# Altium schematic symbol library demolib.SchLib: 1 symbol
Pins are listed as number, name and electrical type; pins without a type are passive.

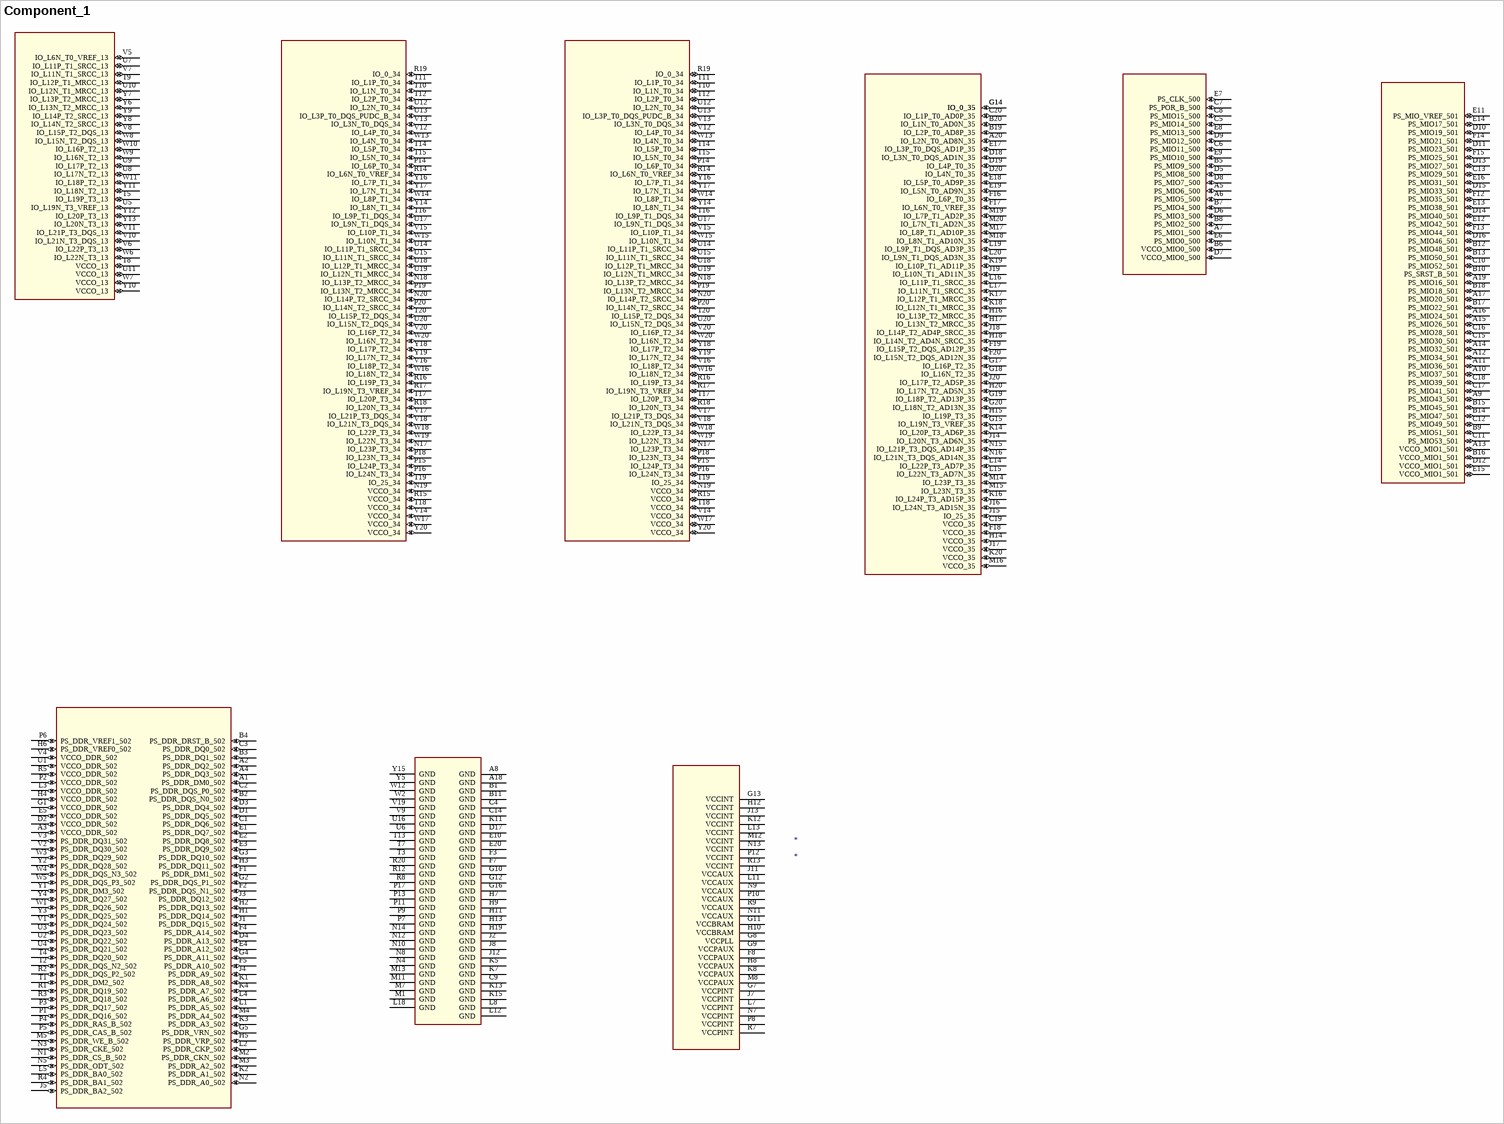
[diagram p0: symbol Component_1]

## Component_1
designator *
pins: A1 PS_DDR_DM0_502 (io) "DDR", A2 PS_DDR_DQ2_502 (io) "DDR", A3 VCCO_DDR_502 (io) "NA", A4 PS_DDR_DQ3_502 (io) "DDR", A5 PS_MIO6_500 (io) "MIO", A6 PS_MIO5_500 (io) "MIO", A7 PS_MIO1_500 (io) "MIO", A8 GND (power), A9 PS_MIO43_501 (io) "MIO", A10 PS_MIO37_501 (io) "MIO", A11 PS_MIO36_501 (io) "MIO", A12 PS_MIO34_501 (io) "MIO", A13 VCCO_MIO1_501 (io) "NA", A14 PS_MIO32_501 (io) "MIO", A15 PS_MIO26_501 (io) "MIO", A16 PS_MIO24_501 (io) "MIO", A17 PS_MIO20_501 (io) "MIO", A18 GND (power), A19 PS_MIO16_501 (io) "MIO", A20 IO_L2N_T0_AD8N_35 (io) "HR", B1 GND (power), B2 PS_DDR_DQS_N0_502 (io) "DDR", B3 PS_DDR_DQ1_502 (io) "DDR", B4 PS_DDR_DRST_B_502 (io) "DDR", B5 PS_MIO9_500 (io) "MIO", B6 VCCO_MIO0_500 (io) "NA", B7 PS_MIO4_500 (io) "MIO", B8 PS_MIO2_500 (io) "MIO", B9 PS_MIO51_501 (io) "MIO", B10 PS_SRST_B_501 (io) "MIO", B11 GND (power), B12 PS_MIO48_501 (io) "MIO", B13 PS_MIO50_501 (io) "MIO", B14 PS_MIO47_501 (io) "MIO", B15 PS_MIO45_501 (io) "MIO", B16 VCCO_MIO1_501 (io) "NA", B17 PS_MIO22_501 (io) "MIO", B18 PS_MIO18_501 (io) "MIO", B19 IO_L2P_T0_AD8P_35 (io) "HR", B20 IO_L1N_T0_AD0N_35 (io) "HR", C1 PS_DDR_DQ6_502 (io) "DDR", C2 PS_DDR_DQS_P0_502 (io) "DDR", C3 PS_DDR_DQ0_502 (io) "DDR", C4 GND (power), C5 PS_MIO14_500 (io) "MIO", C6 PS_MIO11_500 (io) "MIO", C7 PS_POR_B_500 (io) "MIO", C8 PS_MIO15_500 (io) "MIO", C9 GND (power), C10 PS_MIO52_501 (io) "MIO", C11 PS_MIO53_501 (io) "MIO", C12 PS_MIO49_501 (io) "MIO", C13 PS_MIO29_501 (io) "MIO", C14 GND (power), C15 PS_MIO30_501 (io) "MIO", C16 PS_MIO28_501 (io) "MIO", C17 PS_MIO41_501 (io) "MIO", C18 PS_MIO39_501 (io) "MIO", C19 VCCO_35 (io) "NA", C20 IO_L1P_T0_AD0P_35 (io) "HR", D1 PS_DDR_DQ5_502 (io) "DDR", D2 VCCO_DDR_502 (io) "NA", D3 PS_DDR_DQ4_502 (io) "DDR", D4 PS_DDR_A13_502 (io) "DDR", D5 PS_MIO8_500 (io) "MIO", D6 PS_MIO3_500 (io) "MIO", D7 VCCO_MIO0_500 (io) "NA", D8 PS_MIO7_500 (io) "MIO", D9 PS_MIO12_500 (io) "MIO", D10 PS_MIO19_501 (io) "MIO", D11 PS_MIO23_501 (io) "MIO", D12 VCCO_MIO1_501 (io) "NA", D13 PS_MIO27_501 (io) "MIO", D14 PS_MIO40_501 (io) "MIO", D15 PS_MIO33_501 (io) "MIO", D16 PS_MIO46_501 (io) "MIO", D17 GND (power), D18 IO_L3N_T0_DQS_AD1N_35 (io) "HR", D19 IO_L4P_T0_35 (io) "HR", D20 IO_L4N_T0_35 (io) "HR", E1 PS_DDR_DQ7_502 (io) "DDR", E2 PS_DDR_DQ8_502 (io) "DDR", E3 PS_DDR_DQ9_502 (io) "DDR", E4 PS_DDR_A12_502 (io) "DDR", E5 VCCO_DDR_502 (io) "NA", E6 PS_MIO0_500 (io) "MIO", E7 PS_CLK_500 (io) "MIO", E8 PS_MIO13_500 (io) "MIO", E9 PS_MIO10_500 (io) "MIO", E10 GND (power), E11 PS_MIO_VREF_501 (io) "MIO", E12 PS_MIO42_501 (io) "MIO", E13 PS_MIO38_501 (io) "MIO", E14 PS_MIO17_501 (io) "MIO", E15 VCCO_MIO1_501 (io) "NA", E16 PS_MIO31_501 (io) "MIO", E17 IO_L3P_T0_DQS_AD1P_35 (io) "HR", E18 IO_L5P_T0_AD9P_35 (io) "HR", E19 IO_L5N_T0_AD9N_35 (io) "HR", E20 GND (power), F1 PS_DDR_DM1_502 (io) "DDR", F2 PS_DDR_DQS_N1_502 (io) "DDR", F3 GND (power), F4 PS_DDR_A14_502 (io) "DDR", F5 PS_DDR_A10_502 (io) "DDR", F7 GND (power), F8 VCCPAUX (power), F12 PS_MIO35_501 (io) "MIO", F13 PS_MIO44_501 (io) "MIO", F14 PS_MIO21_501 (io) "MIO", F15 PS_MIO25_501 (io) "MIO", F16 IO_L6P_T0_35 (io) "HR", F17 IO_L6N_T0_VREF_35 (io) "HR", F18 VCCO_35 (io) "NA", F19 IO_L15P_T2_DQS_AD12P_35 (io) "HR", F20 IO_L15N_T2_DQS_AD12N_35 (io) "HR", G1 VCCO_DDR_502 (io) "NA", G2 PS_DDR_DQS_P1_502 (io) "DDR", G3 PS_DDR_DQ10_502 (io) "DDR", G4 PS_DDR_A11_502 (io) "DDR", G5 PS_DDR_VRN_502 (io) "DDR", G7 VCCPINT (power), G8 VCCPLL (power), G9 VCCPAUX (power), G10 GND (power), G11 VCCBRAM (power), G12 GND (power), G13 VCCINT (power), G14 IO_0_35 (io) "HR", G14 IO_0_35 (io) "HR", G15 IO_L19N_T3_VREF_35 (io) "HR", G16 GND (power), G17 IO_L16P_T2_35 (io) "HR", G18 IO_L16N_T2_35 (io) "HR", G19 IO_L18P_T2_AD13P_35 (io) "HR", G20 IO_L18N_T2_AD13N_35 (io) "HR", H1 PS_DDR_DQ14_502 (io) "DDR", H2 PS_DDR_DQ13_502 (io) "DDR", H3 PS_DDR_DQ11_502 (io) "DDR", H4 VCCO_DDR_502 (io) "NA", H5 PS_DDR_VRP_502 (io) "DDR", H6 PS_DDR_VREF0_502 (io) "DDR", H7 GND (power), H8 VCCPAUX (power), H9 GND (power), H10 VCCBRAM (power), H11 GND (power), H12 VCCINT (power), H13 GND (power), H14 VCCO_35 (io) "NA", H15 IO_L19P_T3_35 (io) "HR", H16 IO_L13P_T2_MRCC_35 (io) "HR", H17 IO_L13N_T2_MRCC_35 (io) "HR", H18 IO_L14N_T2_AD4N_SRCC_35 (io) "HR", H19 GND (power), H20 IO_L17N_T2_AD5N_35 (io) "HR", J1 PS_DDR_DQ15_502 (io) "DDR", J2 GND (power), J3 PS_DDR_DQ12_502 (io) "DDR", J4 PS_DDR_A9_502 (io) "DDR", J5 PS_DDR_BA2_502 (io) "DDR", J7 VCCPINT (power), J8 GND (power), J11 VCCAUX (power), J12 GND (power), J13 VCCINT (power), J14 IO_L20N_T3_AD6N_35 (io) "HR", J15 IO_25_35 (io) "HR", J16 IO_L24N_T3_AD15N_35 (io) "HR", J17 VCCO_35 (io) "NA", J18 IO_L14P_T2_AD4P_SRCC_35 (io) "HR", J19 IO_L10N_T1_AD11N_35 (io) "HR", J20 IO_L17P_T2_AD5P_35 (io) "HR", K1 PS_DDR_A8_502 (io) "DDR", K2 PS_DDR_A1_502 (io) "DDR", K3 PS_DDR_A3_502 (io) "DDR", K4 PS_DDR_A7_502 (io) "DDR", K5 GND (power), K7 GND (power), K8 VCCPAUX (power), K11 GND (power), K12 VCCINT (power), K13 GND (power), K14 IO_L20P_T3_AD6P_35 (io) "HR", K15 GND (power), K16 IO_L24P_T3_AD15P_35 (io) "HR", K17 IO_L12P_T1_MRCC_35 (io) "HR", K18 IO_L12N_T1_MRCC_35 (io) "HR", K19 IO_L10P_T1_AD11P_35 (io) "HR", K20 VCCO_35 (io) "NA", L1 PS_DDR_A5_502 (io) "DDR", L2 PS_DDR_CKP_502 (io) "DDR", L3 VCCO_DDR_502 (io) "NA", L4 PS_DDR_A6_502 (io) "DDR", L5 PS_DDR_BA0_502 (io) "DDR", L7 VCCPINT (power), L8 GND (power), L11 VCCAUX (power), L12 GND (power), L13 VCCINT (power), L14 IO_L22P_T3_AD7P_35 (io) "HR", L15 IO_L22N_T3_AD7N_35 (io) "HR", L16 IO_L11P_T1_SRCC_35 (io) "HR", L17 IO_L11N_T1_SRCC_35 (io) "HR", L18 GND (power), L19 IO_L9P_T1_DQS_AD3P_35 (io) "HR", L20 IO_L9N_T1_DQS_AD3N_35 (io) "HR", M1 GND (power), M2 PS_DDR_CKN_502 (io) "DDR", M3 PS_DDR_A2_502 (io) "DDR", M4 PS_DDR_A4_502 (io) "DDR", M5 PS_DDR_WE_B_502 (io) "DDR", M7 GND (power), M8 VCCPAUX (power), M11 GND (power), M12 VCCINT (power), M13 GND (power), M14 IO_L23P_T3_35 (io) "HR", M15 IO_L23N_T3_35 (io) "HR", M16 VCCO_35 (io) "NA", M17 IO_L8P_T1_AD10P_35 (io) "HR", M18 IO_L8N_T1_AD10N_35 (io) "HR", M19 IO_L7P_T1_AD2P_35 (io) "HR", M20 IO_L7N_T1_AD2N_35 (io) "HR", N1 PS_DDR_CS_B_502 (io) "DDR", N2 PS_DDR_A0_502 (io) "DDR", N3 PS_DDR_CKE_502 (io) "DDR", N4 GND (power), N5 PS_DDR_ODT_502 (io) "DDR", N7 VCCPINT (power), N8 GND (power), N9 VCCAUX (power), N10 GND (power), N11 VCCAUX (power), N12 GND (power), N13 VCCINT (power), N14 GND (power), N15 IO_L21P_T3_DQS_AD14P_35 (io) "HR", N16 IO_L21N_T3_DQS_AD14N_35 (io) "HR", N17 IO_L23P_T3_34 (io) "HR", N17 IO_L23P_T3_34 (io) "HR", N18 IO_L13P_T2_MRCC_34 (io) "HR", N18 IO_L13P_T2_MRCC_34 (io) "HR", N19 VCCO_34 (io) "NA", N19 VCCO_34 (io) "NA", N20 IO_L14P_T2_SRCC_34 (io) "HR", N20 IO_L14P_T2_SRCC_34 (io) "HR", P1 PS_DDR_DQ16_502 (io) "DDR", P2 VCCO_DDR_502 (io) "NA", P3 PS_DDR_DQ17_502 (io) "DDR", P4 PS_DDR_RAS_B_502 (io) "DDR", P5 PS_DDR_CAS_B_502 (io) "DDR", P6 PS_DDR_VREF1_502 (io) "DDR", P7 GND (power), P8 VCCPINT (power), P9 GND (power), P10 VCCAUX (power), P11 GND (power), P12 VCCINT (power), P13 GND (power), P14 IO_L6P_T0_34 (io) "HR", P14 IO_L6P_T0_34 (io) "HR", P15 IO_L24P_T3_34 (io) "HR", P15 IO_L24P_T3_34 (io) "HR", P16 IO_L24N_T3_34 (io) "HR", P16 IO_L24N_T3_34 (io) "HR", P17 GND (power), P18 IO_L23N_T3_34 (io) "HR", P18 IO_L23N_T3_34 (io) "HR", P19 IO_L13N_T2_MRCC_34 (io) "HR", P19 IO_L13N_T2_MRCC_34 (io) "HR", P20 IO_L14N_T2_SRCC_34 (io) "HR", P20 IO_L14N_T2_SRCC_34 (io) "HR", R1 PS_DDR_DQ19_502 (io) "DDR", R2 PS_DDR_DQS_P2_502 (io) "DDR", R3 PS_DDR_DQ18_502 (io) "DDR", R4 PS_DDR_BA1_502 (io) "DDR", R5 VCCO_DDR_502 (io) "NA", R7 VCCPINT (power), R8 GND (power), R9 VCCAUX (power), R12 GND (power), R13 VCCINT (power), R14 IO_L6N_T0_VREF_34 (io) "HR", R14 IO_L6N_T0_VREF_34 (io) "HR", R15 VCCO_34 (io) "NA", R15 VCCO_34 (io) "NA", R16 IO_L19P_T3_34 (io) "HR", R16 IO_L19P_T3_34 (io) "HR", R17 IO_L19N_T3_VREF_34 (io) "HR", R17 IO_L19N_T3_VREF_34 (io) "HR", R18 IO_L20N_T3_34 (io) "HR", R18 IO_L20N_T3_34 (io) "HR", R19 IO_0_34 (io) "HR", R19 IO_0_34 (io) "HR", R20 GND (power), T1 PS_DDR_DM2_502 (io) "DDR", T2 PS_DDR_DQS_N2_502 (io) "DDR", T3 GND (power), T4 PS_DDR_DQ20_502 (io) "DDR", T5 IO_L19P_T3_13 (io) "HR", T7 GND (power), T8 VCCO_13 (io) "NA", T9 IO_L12P_T1_MRCC_13 (io) "HR", T10 IO_L1N_T0_34 (io) "HR", T10 IO_L1N_T0_34 (io) "HR", T11 IO_L1P_T0_34 (io) "HR", T11 IO_L1P_T0_34 (io) "HR", T12 IO_L2P_T0_34 (io) "HR", T12 IO_L2P_T0_34 (io) "HR", T13 GND (power), T14 IO_L5P_T0_34 (io) "HR", T14 IO_L5P_T0_34 (io) "HR", T15 IO_L5N_T0_34 (io) "HR", T15 IO_L5N_T0_34 (io) "HR", T16 IO_L9P_T1_DQS_34 (io) "HR", T16 IO_L9P_T1_DQS_34 (io) "HR", T17 IO_L20P_T3_34 (io) "HR", T17 IO_L20P_T3_34 (io) "HR", T18 VCCO_34 (io) "NA", T18 VCCO_34 (io) "NA", T19 IO_25_34 (io) "HR", T19 IO_25_34 (io) "HR", T20 IO_L15P_T2_DQS_34 (io) "HR", T20 IO_L15P_T2_DQS_34 (io) "HR", U1 VCCO_DDR_502 (io) "NA", U2 PS_DDR_DQ22_502 (io) "DDR", U3 PS_DDR_DQ23_502 (io) "DDR", U4 PS_DDR_DQ21_502 (io) "DDR", U5 IO_L19N_T3_VREF_13 (io) "HR", U6 GND (power), U7 IO_L11P_T1_SRCC_13 (io) "HR", U8 IO_L17N_T2_13 (io) "HR", U9 IO_L17P_T2_13 (io) "HR", U10 IO_L12N_T1_MRCC_13 (io) "HR", U11 VCCO_13 (io) "NA", U12 IO_L2N_T0_34 (io) "HR", U12 IO_L2N_T0_34 (io) "HR", U13 IO_L3P_T0_DQS_PUDC_B_34 (io) "HR", U13 IO_L3P_T0_DQS_PUDC_B_34 (io) "HR", U14 IO_L11P_T1_SRCC_34 (io) "HR", U14 IO_L11P_T1_SRCC_34 (io) "HR", U15 IO_L11N_T1_SRCC_34 (io) "HR", U15 IO_L11N_T1_SRCC_34 (io) "HR", U16 GND (power), U17 IO_L9N_T1_DQS_34 (io) "HR", U17 IO_L9N_T1_DQS_34 (io) "HR", U18 IO_L12P_T1_MRCC_34 (io) "HR", U18 IO_L12P_T1_MRCC_34 (io) "HR", U19 IO_L12N_T1_MRCC_34 (io) "HR", U19 IO_L12N_T1_MRCC_34 (io) "HR", U20 IO_L15N_T2_DQS_34 (io) "HR", U20 IO_L15N_T2_DQS_34 (io) "HR", V1 PS_DDR_DQ24_502 (io) "DDR", V2 PS_DDR_DQ30_502 (io) "DDR", V3 PS_DDR_DQ31_502 (io) "DDR", V4 VCCO_DDR_502 (io) "NA", V5 IO_L6N_T0_VREF_13 (io) "HR", V6 IO_L22P_T3_13 (io) "HR", V7 IO_L11N_T1_SRCC_13 (io) "HR", V8 IO_L15P_T2_DQS_13 (io) "HR", V9 GND (power), V10 IO_L21N_T3_DQS_13 (io) "HR", V11 IO_L21P_T3_DQS_13 (io) "HR", V12 IO_L4P_T0_34 (io) "HR", V12 IO_L4P_T0_34 (io) "HR", V13 IO_L3N_T0_DQS_34 (io) "HR", V13 IO_L3N_T0_DQS_34 (io) "HR", V14 VCCO_34 (io) "NA", V14 VCCO_34 (io) "NA", V15 IO_L10P_T1_34 (io) "HR", V15 IO_L10P_T1_34 (io) "HR", V16 IO_L18P_T2_34 (io) "HR", V16 IO_L18P_T2_34 (io) "HR", V17 IO_L21P_T3_DQS_34 (io) "HR", V17 IO_L21P_T3_DQS_34 (io) "HR", V18 IO_L21N_T3_DQS_34 (io) "HR", V18 IO_L21N_T3_DQS_34 (io) "HR", V19 GND (power), V20 IO_L16P_T2_34 (io) "HR", V20 IO_L16P_T2_34 (io) "HR", W1 PS_DDR_DQ26_502 (io) "DDR", W2 GND (power), W3 PS_DDR_DQ29_502 (io) "DDR", W4 PS_DDR_DQS_N3_502 (io) "DDR", W5 PS_DDR_DQS_P3_502 (io) "DDR", W6 IO_L22N_T3_13 (io) "HR", W7 VCCO_13 (io) "NA", W8 IO_L15N_T2_DQS_13 (io) "HR", W9 IO_L16N_T2_13 (io) "HR", W10 IO_L16P_T2_13 (io) "HR", W11 IO_L18P_T2_13 (io) "HR", W12 GND (power), W13 IO_L4N_T0_34 (io) "HR", W13 IO_L4N_T0_34 (io) "HR", W14 IO_L8P_T1_34 (io) "HR", W14 IO_L8P_T1_34 (io) "HR", W15 IO_L10N_T1_34 (io) "HR", W15 IO_L10N_T1_34 (io) "HR", W16 IO_L18N_T2_34 (io) "HR", W16 IO_L18N_T2_34 (io) "HR", W17 VCCO_34 (io) "NA", W17 VCCO_34 (io) "NA", W18 IO_L22P_T3_34 (io) "HR", W18 IO_L22P_T3_34 (io) "HR", W19 IO_L22N_T3_34 (io) "HR", W19 IO_L22N_T3_34 (io) "HR", W20 IO_L16N_T2_34 (io) "HR", W20 IO_L16N_T2_34 (io) "HR", Y1 PS_DDR_DM3_502 (io) "DDR", Y2 PS_DDR_DQ28_502 (io) "DDR", Y3 PS_DDR_DQ25_502 (io) "DDR", Y4 PS_DDR_DQ27_502 (io) "DDR", Y5 GND (power), Y6 IO_L13N_T2_MRCC_13 (io) "HR", Y7 IO_L13P_T2_MRCC_13 (io) "HR", Y8 IO_L14N_T2_SRCC_13 (io) "HR", Y9 IO_L14P_T2_SRCC_13 (io) "HR", Y10 VCCO_13 (io) "NA", Y11 IO_L18N_T2_13 (io) "HR", Y12 IO_L20P_T3_13 (io) "HR", Y13 IO_L20N_T3_13 (io) "HR", Y14 IO_L8N_T1_34 (io) "HR", Y14 IO_L8N_T1_34 (io) "HR", Y15 GND (power), Y16 IO_L7P_T1_34 (io) "HR", Y16 IO_L7P_T1_34 (io) "HR", Y17 IO_L7N_T1_34 (io) "HR", Y17 IO_L7N_T1_34 (io) "HR", Y18 IO_L17P_T2_34 (io) "HR", Y18 IO_L17P_T2_34 (io) "HR", Y19 IO_L17N_T2_34 (io) "HR", Y19 IO_L17N_T2_34 (io) "HR", Y20 VCCO_34 (io) "NA", Y20 VCCO_34 (io) "NA"